# EAGLE library part RJ_11_GUEST (library WASP_RJ11)
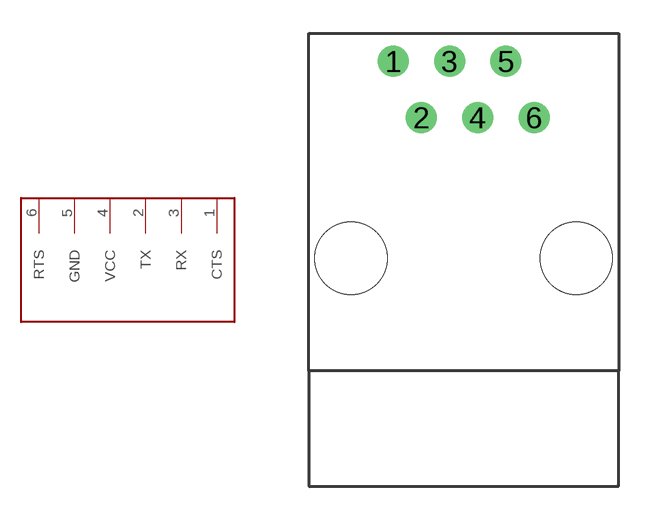
[diagram p1: symbol with the pads of RJ_11; footprint RJ_11]

Designator prefix -

## RJ_11_GUEST  [RJ_11]
1  CTS
2  TX
3  RX
4  VCC
5  GND
6  RTS

## Footprint RJ_11 (pad centres in mm)
drill 0.889 round: 1 1.905,8.89; 2 3.175,6.35; 3 4.445,8.89; 4 5.715,6.35; 5 6.985,8.89; 6 8.255,6.35
hole 3.251 at 0,0
hole 3.251 at 10.16,0